# EAGLE library part NC7WZ17P6X (library MotorDriver)
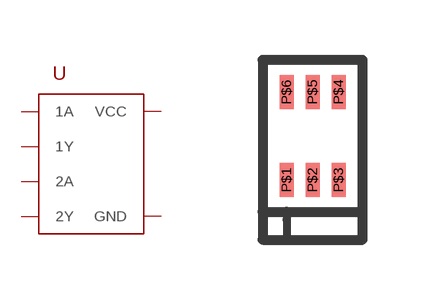
[diagram p6: symbol with the pads of SC-70-6; footprint SC-70-6]

Designator prefix U

## NC7WZ17P6X/SC-70  [SC-70-6]
P$1  1A
P$2  GND
P$3  2A
P$4  2Y
P$5  VCC
P$6  1Y

## Footprint SC-70-6 (pad centres in mm)
smd 0.35 x 0.85: P$1 -0.5,-1; P$2 0.15,-1; P$3 0.8,-1; P$4 0.8,1.2; P$5 0.15,1.2; P$6 -0.5,1.2